# Altium schematic symbol library MFS1_4CC1001F.SchLib: 1 symbol
Pins are listed as number, name and electrical type; pins without a type are passive.

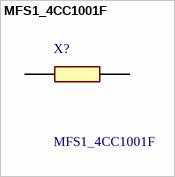
[diagram p0: symbol MFS1_4CC1001F]

## MFS1_4CC1001F
designator X?
KOA Axial Metal Film Resistor 1k +/-1% 0.25W +/-50ppm/C; Manufacturer_Name: KOA Speer; Manufacturer_Part_Number: MFS1/4CC1001F; Mouser Part Number: 660-MFS1/4CC1001F; Mouser Price/Stock: https://www.mouser.co.uk/ProductDetail/KOA-Speer/MFS1-4CC1001F?qs=W1HJaynCbQwggh46CLL3yw%3D%3D; Datasheet Link: https://www.koaspeer.com/catimages/Products/MF-MFS-RK/MF-MFS-RK.pdf
footprint RESAD1075W45L335D185
pins: 1, 2